# Altium footprint library INF-SCD80_V.PcbLib: 1 footprints
Each footprint in its own frame and in the unit in brackets; x right, y up, seen from the top. Pads: shape width x height; smd on the part's side, far side on the other; paste and mask are expansions set on the pad; w line width, h text height; cw(c..) or ccw(c..) is an arc to the next point about the centre after c.
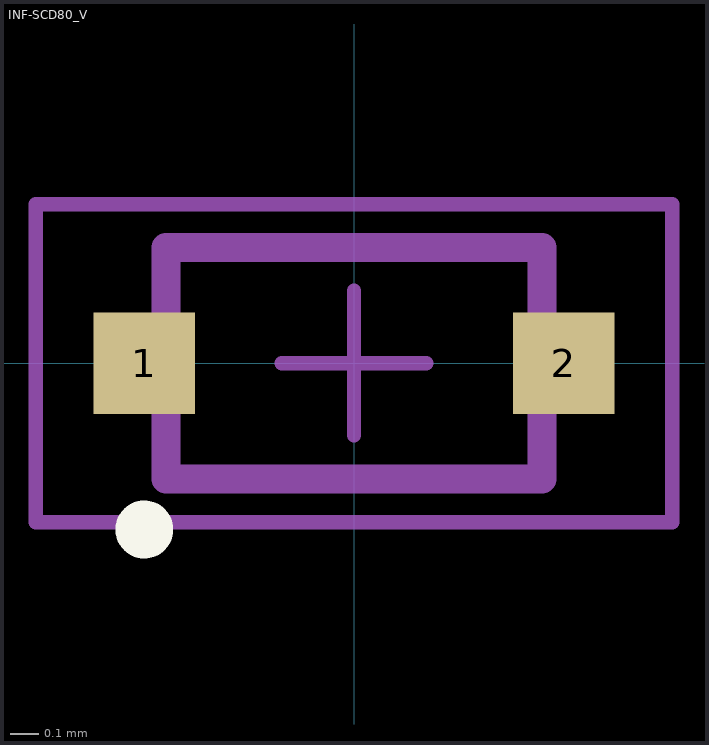
[diagram p0: the footprint, top view; thin cyan lines are the x and y axes]

## INF-SCD80_V [mm] "SCD80, 2-Leads, Body 0.8x1.3 mm"
height 0.8
pads (2):
  rect 0.35x0.35 smd: 1(-0.725,0) 2(0.725,0)
Top Overlay:
  circle w0.1: c-0.725,-0.575 r0.05
Mechanical 13:
  lines w0.1: -0.65,-0.4 0.65,-0.4 0.65,0.4 -0.65,0.4 -0.65,-0.4
Mechanical 15:
  lines w0.05: -0.25,0 0.25,0 ; 0,-0.25 0,0.25 ; -1.1,-0.55 1.1,-0.55 1.1,0.55 -1.1,0.55 -1.1,-0.55
3D body: height 0.8, standoff 0, extent -0.65,-0.4 0.65,0.4